# EAGLE library part AQM0802A-RN-GBW (library I2C_LCD)
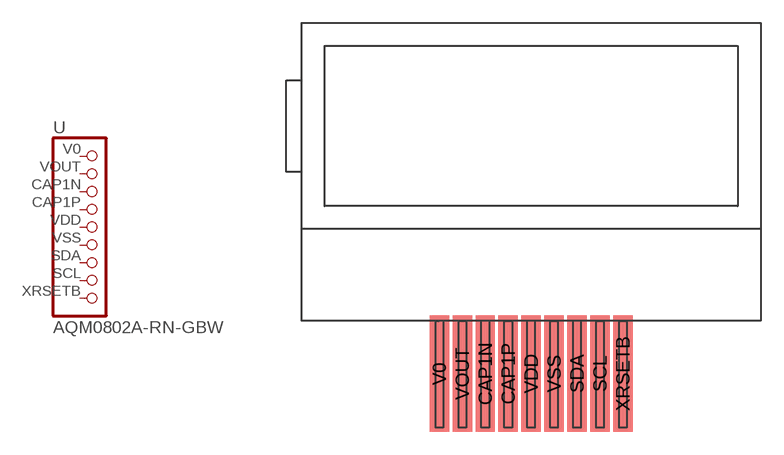
[diagram p1: symbol with the pads of AQM0802A; footprint AQM0802A]

Designator prefix -

## AQM0802A-RN-GBW  [AQM0802A]
CAP1N  CAP1N  pas
CAP1P  CAP1P  pas
SCL  SCL  pas
SDA  SDA  pas
V0  V0  pas
VDD  VDD  pas
VOUT  VOUT  pas
VSS  VSS  pas
XRSETB  XRSETB  pas

## Footprint AQM0802A (pad centres in mm)
smd 1.27 x 7.62: CAP1N -3,-3.46; CAP1P -1.5,-3.46; SCL 4.5,-3.46; SDA 3,-3.46; V0 -6,-3.46; VDD 0,-3.46; VOUT -4.5,-3.46; VSS 1.5,-3.46; XRSETB 6,-3.46